# Altium schematic symbol library HDMI.Schlib: 1 symbol
Pins are listed as number, name and electrical type; pins without a type are passive.

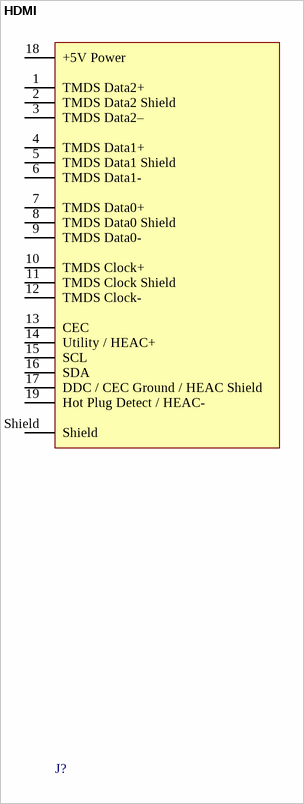
[diagram p0: symbol HDMI]

## HDMI
designator J?
HDMI Connector
pins: 1 TMDS Data2+, 2 TMDS Data2 Shield, 3 TMDS Data2–, 4 TMDS Data1+, 5 TMDS Data1 Shield, 6 TMDS Data1-, 7 TMDS Data0+, 8 TMDS Data0 Shield, 9 TMDS Data0-, 10 TMDS Clock+, 11 TMDS Clock Shield, 12 TMDS Clock-, 13 CEC, 14 Utility / HEAC+, 15 SCL, 16 SDA, 17 DDC / CEC Ground / HEAC Shield, 18 +5V Power, 19 Hot Plug Detect / HEAC-, Shield